# Altium schematic symbol library HS_HS96L03W2C03.SchLib: 1 symbol
Pins are listed as number, name and electrical type; pins without a type are passive.

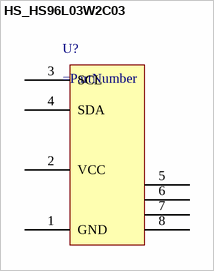
[diagram p0: symbol HS_HS96L03W2C03]

## HS_HS96L03W2C03
designator U?
pins: 1 GND, 2 VCC, 3 SCL, 4 SDA, 5, 6, 7, 8